# EAGLE library part WT41-N (library sf-bluegiga)
Long-range Bluetooth module - Bluetooth 2.1 + EDR (+20 dBm, 1000m), RF pins
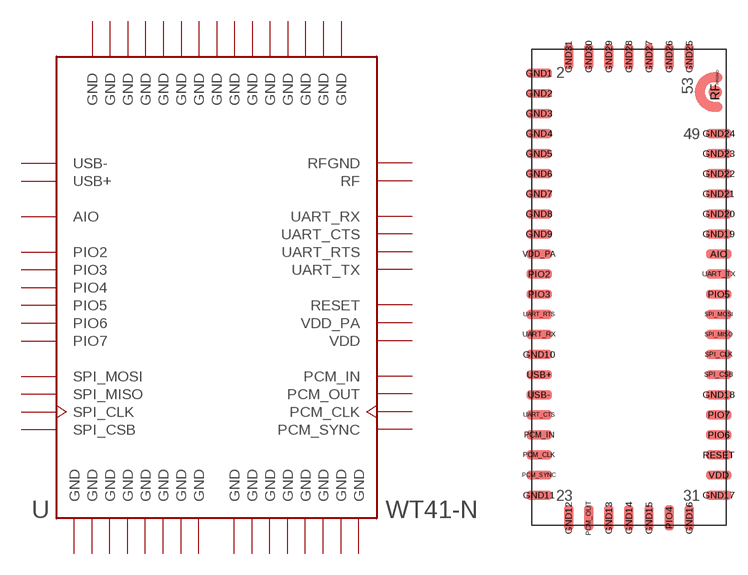
[diagram p3: symbol with the pads of WT41-N; footprint WT41-N]

Designator prefix U

## WT41-N  [WT41-N]
AIO  AIO
GND1  GND  pwr
GND2  GND  pwr
GND3  GND  pwr
GND4  GND  pwr
GND5  GND  pwr
GND6  GND  pwr
GND7  GND  pwr
GND8  GND  pwr
GND9  GND  pwr
GND10  GND  pwr
GND11  GND  pwr
GND12  GND  pwr
GND13  GND  pwr
GND14  GND  pwr
GND15  GND  pwr
GND16  GND  pwr
GND17  GND  pwr
GND18  GND  pwr
GND19  GND  pwr
GND20  GND  pwr
GND21  GND  pwr
GND22  GND  pwr
GND23  GND  pwr
GND24  GND  pwr
GND25  GND  pwr
GND26  GND  pwr
GND27  GND  pwr
GND28  GND  pwr
GND29  GND  pwr
GND30  GND  pwr
GND31  GND  pwr
PCM_CLK  PCM_CLK
PCM_IN  PCM_IN  in
PCM_OUT  PCM_OUT  out
PCM_SYNC  PCM_SYNC
PIO2  PIO2
PIO3  PIO3
PIO4  PIO4
PIO5  PIO5
PIO6  PIO6
PIO7  PIO7
RESET  RESET  in
RF  RF
RFGND  RFGND
SPI_CLK  SPI_CLK  in
SPI_CSB  SPI_CSB  in
SPI_MISO  SPI_MISO  out
SPI_MOSI  SPI_MOSI  in
UART_CTS  UART_CTS  in
UART_RTS  UART_RTS  out
UART_RX  UART_RX  in
UART_TX  UART_TX  out
USB+  USB+
USB-  USB-
VDD  VDD  pwr
VDD_PA  VDD_PA  pwr

## Footprint WT41-N (pad centres in mm)
Long-range Bluetooth module - Bluetooth 2.1 + EDR (+20 dBm, 1000m), RF pins
smd 1.9 x 0.7: AIO 6.7,2.45; GND1 -6.7,15.95; GND2 -6.7,14.45; GND3 -6.7,12.95; GND4 -6.7,11.45; GND5 -6.7,9.95; GND6 -6.7,8.45; GND7 -6.7,6.95; GND8 -6.7,5.45; GND9 -6.7,3.95; GND10 -6.7,-5.05; GND11 -6.7,-15.55; GND17 6.7,-15.55; GND18 6.7,-8.05; GND19 6.7,3.95; GND20 6.7,5.45; GND21 6.7,6.95; GND22 6.7,8.45; GND23 6.7,9.95; GND24 6.7,11.45; PCM_CLK -6.7,-12.55; PCM_IN -6.7,-11.05; PCM_SYNC -6.7,-14.05; PIO2 -6.7,0.95; PIO3 -6.7,-0.55; PIO5 6.7,-0.55; PIO6 6.7,-11.05; PIO7 6.7,-9.55; RESET 6.7,-12.55; SPI_CLK 6.7,-5.05; SPI_CSB 6.7,-6.55; SPI_MISO 6.7,-3.55; SPI_MOSI 6.7,-2.05; UART_CTS -6.7,-9.55; UART_RTS -6.7,-2.05; UART_RX -6.7,-3.55; UART_TX 6.7,0.95; USB+ -6.7,-6.55; USB- -6.7,-8.05; VDD 6.7,-14.05; VDD_PA -6.7,2.45
smd 0.7 x 1.9: GND12 -4.5,-17.25; GND13 -1.5,-17.25; GND14 0,-17.25; GND15 1.5,-17.25; GND16 4.5,-17.25; GND25 4.5,17.2; GND26 3,17.2; GND27 1.5,17.2; GND28 0,17.2; GND29 -1.5,17.2; GND30 -3,17.2; GND31 -4.5,17.2; PCM_OUT -3,-17.25; PIO4 3,-17.25
smd 1 x 1: RF 6.45,14.55
smd 0.75 x 0.75: RFGND 6.6,15.65